# EAGLE library part WW23121609 (library display)
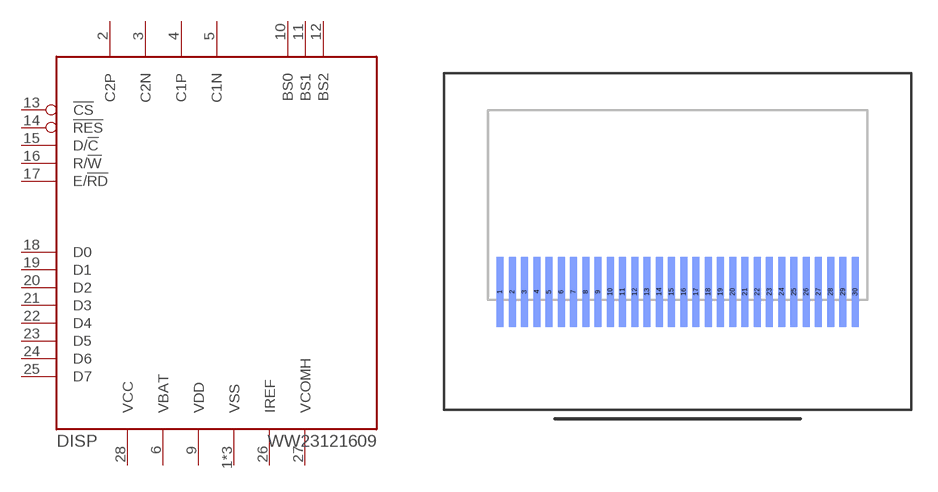
[diagram p7: symbol with the pads of WW23121609; footprint WW23121609]

Designator prefix DISP

## WW23121609  [WW23121609]
1  VSS  pwr
2  C2P  sup
3  C2N  sup
4  C1P  sup
5  C1N  sup
6  VBAT  pwr
8  VSS  pwr
9  VDD  pwr
10  BS0  in
11  BS1  in
12  BS2  in
13  !CS!  in
14  !RES!  in
15  D/!C!  in
16  R/!W!  in
17  E/!RD!  in
18  D0
19  D1
20  D2
21  D3
22  D4
23  D5
24  D6
25  D7
26  IREF
27  VCOMH
28  VCC  pwr
30  VSS  pwr

## Footprint WW23121609 (pad centres in mm)
smd 0.4 x 4 bottom: 1 -10.15,6.76; 2 -9.45,6.76; 3 -8.75,6.76; 4 -8.05,6.76; 5 -7.35,6.76; 6 -6.65,6.76; 7 -5.95,6.76; 8 -5.25,6.76; 9 -4.55,6.76; 10 -3.85,6.76; 11 -3.15,6.76; 12 -2.45,6.76; 13 -1.75,6.76; 14 -1.05,6.76; 15 -0.35,6.76; 16 0.35,6.76; 17 1.05,6.76; 18 1.75,6.76; 19 2.45,6.76; 20 3.15,6.76; 21 3.85,6.76; 22 4.55,6.76; 23 5.25,6.76; 24 5.95,6.76; 25 6.65,6.76; 26 7.35,6.76; 27 8.05,6.76; 28 8.75,6.76; 29 9.45,6.76; 30 10.15,6.76